# EAGLE library part CC10-1212SF-E (library my-library)
CC10-1212SF-E Mouser <https://www.mouser.in/ProductDetail/TDK-Lambda/CC10-1212SF-E?qs=%2Fha2pyFaduiaC1qTtt4QeJHUoNlZT6XAfkmFV9r5z8nbaYvLpCIk%252BQ%3D%3D> Datasheet <https://www.mouser.com/datasheet/2/400/c-e_e-1101879.pdf> SnapEDA-Datasheet <https://www.snapeda.com/parts/CC10-1212SR-E/TDK-Lambda%20Americas%20Inc./datasheet/>
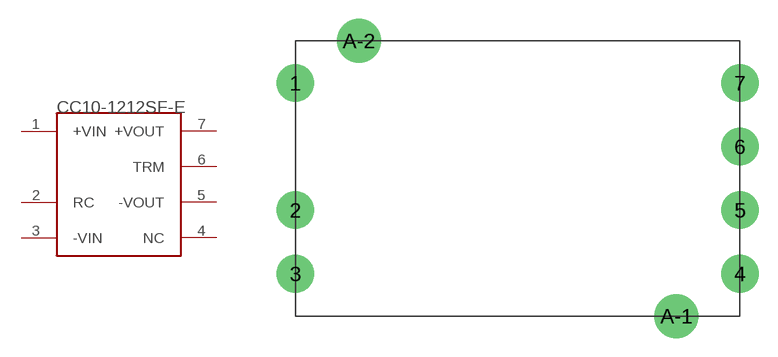
[diagram p1: symbol with the pads of CC10-1212SF-E; footprint CC10-1212SF-E]

Designator prefix -

## CC10-1212SF-ETHT  [CC10-1212SF-E]
1  +VIN
2  RC
3  -VIN
4  NC
5  -VOUT
6  TRM
7  +VOUT

## Footprint CC10-1212SF-E (pad centres in mm)
drill 2: 1 0,18.62; 2 0,8.46; 3 0,3.38; 4 35.56,3.38; 5 35.56,8.46; 6 35.56,13.54; 7 35.56,18.62
drill 2.5: A-1 30.48,0; A-2 5.08,22